# Altium schematic symbol library WE-MI.SchLib: 69 symbols (part 1 of 2)
Pins are listed as number, name and electrical type; pins without a type are passive.

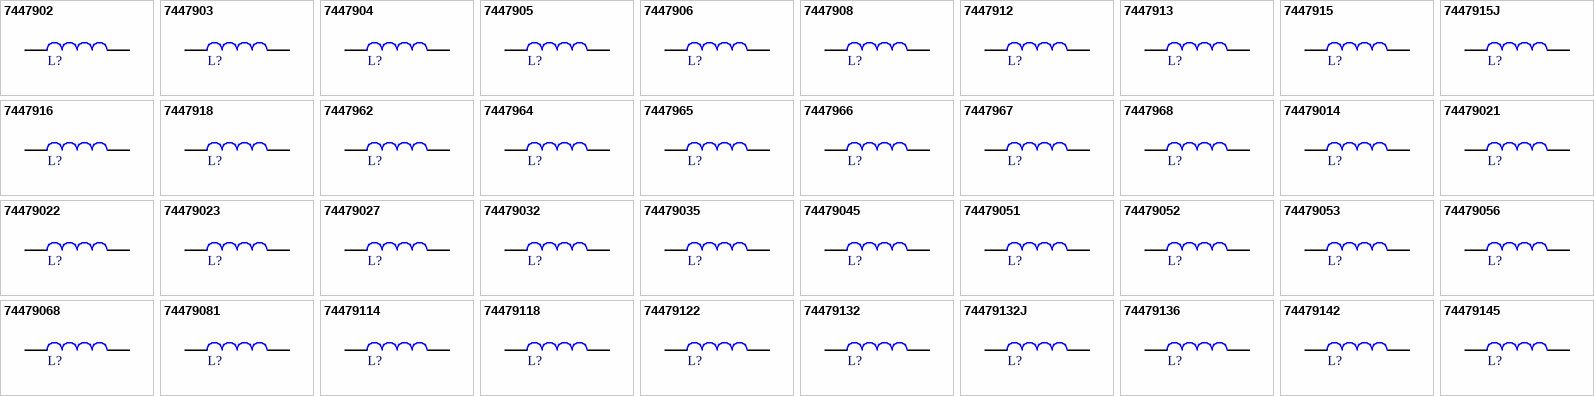
[diagram p0: symbols 7447902 to 74479145]

## 7447902
designator L?, comment 0.1µH  (value not drawn)
WE-MI SMT Multilayer Inductor, size 0805, 0.1µH, 250mA, 0.3Ω; Manufacturer Part Number: 7447902; Manufacturer: Wurth Elektronik; Case/Size Code: 0805; Q Factor: 20; ComponentLink1Description: Manufacturer Link; ComponentLink1URL: https://www.we-online.com/redexpert/article/7447902?ad; ComponentLink2Description: Datasheet; ComponentLink2URL: https://www.we-online.com/redexpert/spec/7447902?ad; Category: Filter Chokes; Match Code: WE-MI; Mount: Surface Mount; Operating Temperature Max: 125°C; Operating Temperature Min: -55°C; Packaging: Tape and Reel; Length: 2mm; Width: 1.2mm; Height: 0.9mm; DC Resistance Max: 0.3Ω; Inductance: 0.1µH; Rated Current: 250mA
footprint WE-MI_0805_L2W1.2H0.9
pins: 1, 2

## 7447903
designator L?, comment 0.33µH  (value not drawn)
WE-MI SMT Multilayer Inductor, size 0805, 0.33µH, 250mA, 0.5Ω; Manufacturer Part Number: 7447903; Manufacturer: Wurth Elektronik; Case/Size Code: 0805; Q Factor: 20; ComponentLink1Description: Manufacturer Link; ComponentLink1URL: https://www.we-online.com/redexpert/article/7447903?ad; ComponentLink2Description: Datasheet; ComponentLink2URL: https://www.we-online.com/redexpert/spec/7447903?ad; Category: Filter Chokes; Match Code: WE-MI; Mount: Surface Mount; Operating Temperature Max: 125°C; Operating Temperature Min: -55°C; Packaging: Tape and Reel; Length: 2mm; Width: 1.2mm; Height: 0.9mm; DC Resistance Max: 0.5Ω; Inductance: 0.33µH; Rated Current: 250mA
footprint WE-MI_0805_L2W1.2H0.9
pins: 1, 2

## 7447904
designator L?, comment 0.68µH  (value not drawn)
WE-MI SMT Multilayer Inductor, size 0805, 0.68µH, 150mA, 0.8Ω; Manufacturer Part Number: 7447904; Manufacturer: Wurth Elektronik; Case/Size Code: 0805; Q Factor: 25; ComponentLink1Description: Manufacturer Link; ComponentLink1URL: https://www.we-online.com/redexpert/article/7447904?ad; ComponentLink2Description: Datasheet; ComponentLink2URL: https://www.we-online.com/redexpert/spec/7447904?ad; Category: Filter Chokes; Match Code: WE-MI; Mount: Surface Mount; Operating Temperature Max: 125°C; Operating Temperature Min: -55°C; Packaging: Tape and Reel; Length: 2mm; Width: 1.2mm; Height: 1.25mm; DC Resistance Max: 0.8Ω; Inductance: 0.68µH; Rated Current: 150mA
footprint WE-MI_0805_L2W1.2H1.25
pins: 1, 2

## 7447905
designator L?, comment 1µH  (value not drawn)
WE-MI SMT Multilayer Inductor, size 0805, 1µH, 50mA, 0.4Ω; Manufacturer Part Number: 7447905; Manufacturer: Wurth Elektronik; Case/Size Code: 0805; Q Factor: 45; ComponentLink1Description: Manufacturer Link; ComponentLink1URL: https://www.we-online.com/redexpert/article/7447905?ad; ComponentLink2Description: Datasheet; ComponentLink2URL: https://www.we-online.com/redexpert/spec/7447905?ad; Category: Filter Chokes; Match Code: WE-MI; Mount: Surface Mount; Operating Temperature Max: 125°C; Operating Temperature Min: -55°C; Packaging: Tape and Reel; Length: 2mm; Width: 1.2mm; Height: 0.9mm; DC Resistance Max: 0.4Ω; Inductance: 1µH; Rated Current: 50mA
footprint WE-MI_0805_L2W1.2H0.9
pins: 1, 2

## 7447906
designator L?, comment 4.7µH  (value not drawn)
WE-MI SMT Multilayer Inductor, size 0805, 4.7µH, 30mA, 1Ω; Manufacturer Part Number: 7447906; Manufacturer: Wurth Elektronik; Case/Size Code: 0805; Q Factor: 45; ComponentLink1Description: Manufacturer Link; ComponentLink1URL: https://www.we-online.com/redexpert/article/7447906?ad; ComponentLink2Description: Datasheet; ComponentLink2URL: https://www.we-online.com/redexpert/spec/7447906?ad; Category: Filter Chokes; Match Code: WE-MI; Mount: Surface Mount; Operating Temperature Max: 125°C; Operating Temperature Min: -55°C; Packaging: Tape and Reel; Length: 2mm; Width: 1.2mm; Height: 1.25mm; DC Resistance Max: 1Ω; Inductance: 4.7µH; Rated Current: 30mA
footprint WE-MI_0805_L2W1.2H1.25
pins: 1, 2

## 7447908
designator L?, comment 10µH  (value not drawn)
WE-MI SMT Multilayer Inductor, size 0805, 10µH, 15mA, 1Ω; Manufacturer Part Number: 7447908; Manufacturer: Wurth Elektronik; Case/Size Code: 0805; Q Factor: 50; ComponentLink1Description: Manufacturer Link; ComponentLink1URL: https://www.we-online.com/redexpert/article/7447908?ad; ComponentLink2Description: Datasheet; ComponentLink2URL: https://www.we-online.com/redexpert/spec/7447908?ad; Category: Filter Chokes; Match Code: WE-MI; Mount: Surface Mount; Operating Temperature Max: 125°C; Operating Temperature Min: -55°C; Packaging: Tape and Reel; Length: 2mm; Width: 1.2mm; Height: 1.25mm; DC Resistance Max: 1Ω; Inductance: 10µH; Rated Current: 15mA
footprint WE-MI_0805_L2W1.2H1.25
pins: 1, 2

## 7447912
designator L?, comment 0.1µH  (value not drawn)
WE-MI SMT Multilayer Inductor, size 1206, 0.1µH, 250mA, 0.25Ω; Manufacturer Part Number: 7447912; Manufacturer: Wurth Elektronik; Case/Size Code: 1206; Q Factor: 20; ComponentLink1Description: Manufacturer Link; ComponentLink1URL: https://www.we-online.com/redexpert/article/7447912?ad; ComponentLink2Description: Datasheet; ComponentLink2URL: https://www.we-online.com/redexpert/spec/7447912?ad; Category: Filter Chokes; Match Code: WE-MI; Mount: Surface Mount; Operating Temperature Max: 125°C; Operating Temperature Min: -55°C; Packaging: Tape and Reel; Length: 3.2mm; Width: 1.6mm; Height: 1.1mm; DC Resistance Max: 0.25Ω; Inductance: 0.1µH; Rated Current: 250mA
footprint WE-MI_1206_L3.2W1.6H1.1
pins: 1, 2

## 7447913
designator L?, comment 0.33µH  (value not drawn)
WE-MI SMT Multilayer Inductor, size 1206, 0.33µH, 250mA, 0.5Ω; Manufacturer Part Number: 7447913; Manufacturer: Wurth Elektronik; Case/Size Code: 1206; Q Factor: 20; ComponentLink1Description: Manufacturer Link; ComponentLink1URL: https://www.we-online.com/redexpert/article/7447913?ad; ComponentLink2Description: Datasheet; ComponentLink2URL: https://www.we-online.com/redexpert/spec/7447913?ad; Category: Filter Chokes; Match Code: WE-MI; Mount: Surface Mount; Operating Temperature Max: 125°C; Operating Temperature Min: -55°C; Packaging: Tape and Reel; Length: 3.2mm; Width: 1.6mm; Height: 1.1mm; DC Resistance Max: 0.5Ω; Inductance: 0.33µH; Rated Current: 250mA
footprint WE-MI_1206_L3.2W1.6H1.1
pins: 1, 2

## 7447915
designator L?, comment 1µH  (value not drawn)
WE-MI SMT Multilayer Inductor, size 1206, 1µH, 100mA, 0.4Ω; Manufacturer Part Number: 7447915; Manufacturer: Wurth Elektronik; Case/Size Code: 1206; Q Factor: 45; ComponentLink1Description: Manufacturer Link; ComponentLink1URL: https://www.we-online.com/redexpert/article/7447915?ad; ComponentLink2Description: Datasheet; ComponentLink2URL: https://www.we-online.com/redexpert/spec/7447915?ad; Category: Filter Chokes; Match Code: WE-MI; Mount: Surface Mount; Operating Temperature Max: 125°C; Operating Temperature Min: -55°C; Packaging: Tape and Reel; Length: 3.2mm; Width: 1.6mm; Height: 1.1mm; DC Resistance Max: 0.4Ω; Inductance: 1µH; Rated Current: 100mA
footprint WE-MI_1206_L3.2W1.6H1.1
pins: 1, 2

## 7447915J
designator L?, comment 1µH  (value not drawn)
WE-MI SMT Multilayer Inductor, size 1206, 1µH, 100mA, 0.4Ω; Manufacturer Part Number: 7447915J; Manufacturer: Wurth Elektronik; Case/Size Code: 1206; Q Factor: 45; ComponentLink1Description: Manufacturer Link; ComponentLink1URL: https://www.we-online.com/redexpert/article/7447915J?ad; ComponentLink2Description: Datasheet; ComponentLink2URL: https://www.we-online.com/redexpert/spec/7447915J?ad; Category: Filter Chokes; Match Code: WE-MI; Mount: Surface Mount; Operating Temperature Max: 125°C; Operating Temperature Min: -55°C; Packaging: Tape and Reel; Length: 3.2mm; Width: 1.6mm; Height: 1.1mm; DC Resistance Max: 0.4Ω; Inductance: 1µH; Rated Current: 100mA
footprint WE-MI_1206_L3.2W1.6H1.1
pins: 1, 2

## 7447916
designator L?, comment 4.7µH  (value not drawn)
WE-MI SMT Multilayer Inductor, size 1206, 4.7µH, 50mA, 0.9Ω; Manufacturer Part Number: 7447916; Manufacturer: Wurth Elektronik; Case/Size Code: 1206; Q Factor: 45; ComponentLink1Description: Manufacturer Link; ComponentLink1URL: https://www.we-online.com/redexpert/article/7447916?ad; ComponentLink2Description: Datasheet; ComponentLink2URL: https://www.we-online.com/redexpert/spec/7447916?ad; Category: Filter Chokes; Match Code: WE-MI; Mount: Surface Mount; Operating Temperature Max: 125°C; Operating Temperature Min: -55°C; Packaging: Tape and Reel; Length: 3.2mm; Width: 1.6mm; Height: 1.1mm; DC Resistance Max: 0.9Ω; Inductance: 4.7µH; Rated Current: 50mA
footprint WE-MI_1206_L3.2W1.6H1.1
pins: 1, 2

## 7447918
designator L?, comment 10µH  (value not drawn)
WE-MI SMT Multilayer Inductor, size 1206, 10µH, 25mA, 0.6Ω; Manufacturer Part Number: 7447918; Manufacturer: Wurth Elektronik; Case/Size Code: 1206; Q Factor: 50; ComponentLink1Description: Manufacturer Link; ComponentLink1URL: https://www.we-online.com/redexpert/article/7447918?ad; ComponentLink2Description: Datasheet; ComponentLink2URL: https://www.we-online.com/redexpert/spec/7447918?ad; Category: Filter Chokes; Match Code: WE-MI; Mount: Surface Mount; Operating Temperature Max: 125°C; Operating Temperature Min: -55°C; Packaging: Tape and Reel; Length: 3.2mm; Width: 1.6mm; Height: 1.1mm; DC Resistance Max: 0.6Ω; Inductance: 10µH; Rated Current: 25mA
footprint WE-MI_1206_L3.2W1.6H1.1
pins: 1, 2

## 7447962
designator L?, comment 0.1µH  (value not drawn)
WE-MI SMT Multilayer Inductor, size 0603, 0.1µH, 50mA, 0.5Ω; Manufacturer Part Number: 7447962; Manufacturer: Wurth Elektronik; Case/Size Code: 0603; Q Factor: 15; ComponentLink1Description: Manufacturer Link; ComponentLink1URL: https://www.we-online.com/redexpert/article/7447962?ad; ComponentLink2Description: Datasheet; ComponentLink2URL: https://www.we-online.com/redexpert/spec/7447962?ad; Category: Filter Chokes; Match Code: WE-MI; Mount: Surface Mount; Operating Temperature Max: 125°C; Operating Temperature Min: -55°C; Packaging: Tape and Reel; Length: 1.6mm; Width: 0.8mm; Height: 0.8mm; DC Resistance Max: 0.5Ω; Inductance: 0.1µH; Rated Current: 50mA
footprint WE-MI_0603_L1.6W0.8H0.8
pins: 1, 2

## 7447964
designator L?, comment 0.68µH  (value not drawn)
WE-MI SMT Multilayer Inductor, size 0603, 0.68µH, 35mA, 1.7Ω; Manufacturer Part Number: 7447964; Manufacturer: Wurth Elektronik; Case/Size Code: 0603; Q Factor: 15; ComponentLink1Description: Manufacturer Link; ComponentLink1URL: https://www.we-online.com/redexpert/article/7447964?ad; ComponentLink2Description: Datasheet; ComponentLink2URL: https://www.we-online.com/redexpert/spec/7447964?ad; Category: Filter Chokes; Match Code: WE-MI; Mount: Surface Mount; Operating Temperature Max: 125°C; Operating Temperature Min: -55°C; Packaging: Tape and Reel; Length: 1.6mm; Width: 0.8mm; Height: 0.8mm; DC Resistance Max: 1.7Ω; Inductance: 0.68µH; Rated Current: 35mA
footprint WE-MI_0603_L1.6W0.8H0.8
pins: 1, 2

## 7447965
designator L?, comment 1µH  (value not drawn)
WE-MI SMT Multilayer Inductor, size 0603, 1µH, 25mA, 0.6Ω; Manufacturer Part Number: 7447965; Manufacturer: Wurth Elektronik; Case/Size Code: 0603; Q Factor: 35; ComponentLink1Description: Manufacturer Link; ComponentLink1URL: https://www.we-online.com/redexpert/article/7447965?ad; ComponentLink2Description: Datasheet; ComponentLink2URL: https://www.we-online.com/redexpert/spec/7447965?ad; Category: Filter Chokes; Match Code: WE-MI; Mount: Surface Mount; Operating Temperature Max: 125°C; Operating Temperature Min: -55°C; Packaging: Tape and Reel; Length: 1.6mm; Width: 0.8mm; Height: 0.8mm; DC Resistance Max: 0.6Ω; Inductance: 1µH; Rated Current: 25mA
footprint WE-MI_0603_L1.6W0.8H0.8
pins: 1, 2

## 7447966
designator L?, comment 4.7µH  (value not drawn)
WE-MI SMT Multilayer Inductor, size 0603, 4.7µH, 15mA, 1.8Ω; Manufacturer Part Number: 7447966; Manufacturer: Wurth Elektronik; Case/Size Code: 0603; Q Factor: 35; ComponentLink1Description: Manufacturer Link; ComponentLink1URL: https://www.we-online.com/redexpert/article/7447966?ad; ComponentLink2Description: Datasheet; ComponentLink2URL: https://www.we-online.com/redexpert/spec/7447966?ad; Category: Filter Chokes; Match Code: WE-MI; Mount: Surface Mount; Operating Temperature Max: 125°C; Operating Temperature Min: -55°C; Packaging: Tape and Reel; Length: 1.6mm; Width: 0.8mm; Height: 0.8mm; DC Resistance Max: 1.8Ω; Inductance: 4.7µH; Rated Current: 15mA
footprint WE-MI_0603_L1.6W0.8H0.8
pins: 1, 2

## 7447967
designator L?, comment 8.2µH  (value not drawn)
WE-MI SMT Multilayer Inductor, size 0603, 8.2µH, 5mA, 2.1Ω; Manufacturer Part Number: 7447967; Manufacturer: Wurth Elektronik; Case/Size Code: 0603; Q Factor: 35; ComponentLink1Description: Manufacturer Link; ComponentLink1URL: https://www.we-online.com/redexpert/article/7447967?ad; ComponentLink2Description: Datasheet; ComponentLink2URL: https://www.we-online.com/redexpert/spec/7447967?ad; Category: Filter Chokes; Match Code: WE-MI; Mount: Surface Mount; Operating Temperature Max: 125°C; Operating Temperature Min: -55°C; Packaging: Tape and Reel; Length: 1.6mm; Width: 0.8mm; Height: 0.8mm; DC Resistance Max: 2.1Ω; Inductance: 8.2µH; Rated Current: 5mA
footprint WE-MI_0603_L1.6W0.8H0.8
pins: 1, 2

## 7447968
designator L?, comment 10µH  (value not drawn)
WE-MI SMT Multilayer Inductor, size 0603, 10µH, 3mA, 1.85Ω; Manufacturer Part Number: 7447968; Manufacturer: Wurth Elektronik; Case/Size Code: 0603; Q Factor: 30; ComponentLink1Description: Manufacturer Link; ComponentLink1URL: https://www.we-online.com/redexpert/article/7447968?ad; ComponentLink2Description: Datasheet; ComponentLink2URL: https://www.we-online.com/redexpert/spec/7447968?ad; Category: Filter Chokes; Match Code: WE-MI; Mount: Surface Mount; Operating Temperature Max: 125°C; Operating Temperature Min: -55°C; Packaging: Tape and Reel; Length: 1.6mm; Width: 0.8mm; Height: 0.8mm; DC Resistance Max: 1.85Ω; Inductance: 10µH; Rated Current: 3mA
footprint WE-MI_0603_L1.6W0.8H0.8
pins: 1, 2

## 74479014
designator L?, comment 0.047µH  (value not drawn)
WE-MI SMT Multilayer Inductor, size 0805, 0.047µH, 300mA, 0.2Ω; Manufacturer Part Number: 74479014; Manufacturer: Wurth Elektronik; Case/Size Code: 0805; Q Factor: 20; ComponentLink1Description: Manufacturer Link; ComponentLink1URL: https://www.we-online.com/redexpert/article/74479014?ad; ComponentLink2Description: Datasheet; ComponentLink2URL: https://www.we-online.com/redexpert/spec/74479014?ad; Category: Filter Chokes; Match Code: WE-MI; Mount: Surface Mount; Operating Temperature Max: 125°C; Operating Temperature Min: -55°C; Packaging: Tape and Reel; Length: 2mm; Width: 1.2mm; Height: 0.9mm; DC Resistance Max: 0.2Ω; Inductance: 0.047µH; Rated Current: 300mA
footprint WE-MI_0805_L2W1.2H0.9
pins: 1, 2

## 74479021
designator L?, comment 0.1µH  (value not drawn)
WE-MI SMT Multilayer Inductor, size 0805, 0.1µH, 250mA, 0.2Ω; Manufacturer Part Number: 74479021; Manufacturer: Wurth Elektronik; Case/Size Code: 0805; Q Factor: 20; ComponentLink1Description: Manufacturer Link; ComponentLink1URL: https://www.we-online.com/redexpert/article/74479021?ad; ComponentLink2Description: Datasheet; ComponentLink2URL: https://www.we-online.com/redexpert/spec/74479021?ad; Category: Filter Chokes; Match Code: WE-MI; Mount: Surface Mount; Operating Temperature Max: 125°C; Operating Temperature Min: -55°C; Packaging: Tape and Reel; Length: 2mm; Width: 1.2mm; Height: 0.9mm; DC Resistance Max: 0.2Ω; Inductance: 0.1µH; Rated Current: 250mA
footprint WE-MI_0805_L2W1.2H0.9
pins: 1, 2

## 74479022
designator L?, comment 0.15µH  (value not drawn)
WE-MI SMT Multilayer Inductor, size 0805, 0.15µH, 250mA, 0.4Ω; Manufacturer Part Number: 74479022; Manufacturer: Wurth Elektronik; Case/Size Code: 0805; Q Factor: 20; ComponentLink1Description: Manufacturer Link; ComponentLink1URL: https://www.we-online.com/redexpert/article/74479022?ad; ComponentLink2Description: Datasheet; ComponentLink2URL: https://www.we-online.com/redexpert/spec/74479022?ad; Category: Filter Chokes; Match Code: WE-MI; Mount: Surface Mount; Operating Temperature Max: 125°C; Operating Temperature Min: -55°C; Packaging: Tape and Reel; Length: 2mm; Width: 1.2mm; Height: 0.9mm; DC Resistance Max: 0.4Ω; Inductance: 0.15µH; Rated Current: 250mA
footprint WE-MI_0805_L2W1.2H0.9
pins: 1, 2

## 74479023
designator L?, comment 0.22µH  (value not drawn)
WE-MI SMT Multilayer Inductor, size 0805, 0.22µH, 250mA, 0.5Ω; Manufacturer Part Number: 74479023; Manufacturer: Wurth Elektronik; Case/Size Code: 0805; Q Factor: 20; ComponentLink1Description: Manufacturer Link; ComponentLink1URL: https://www.we-online.com/redexpert/article/74479023?ad; ComponentLink2Description: Datasheet; ComponentLink2URL: https://www.we-online.com/redexpert/spec/74479023?ad; Category: Filter Chokes; Match Code: WE-MI; Mount: Surface Mount; Operating Temperature Max: 125°C; Operating Temperature Min: -55°C; Packaging: Tape and Reel; Length: 2mm; Width: 1.2mm; Height: 0.9mm; DC Resistance Max: 0.5Ω; Inductance: 0.22µH; Rated Current: 250mA
footprint WE-MI_0805_L2W1.2H0.9
pins: 1, 2

## 74479027
designator L?, comment 0.27µH  (value not drawn)
WE-MI SMT Multilayer Inductor, size 0805, 0.27µH, 250mA, 0.5Ω; Manufacturer Part Number: 74479027; Manufacturer: Wurth Elektronik; Case/Size Code: 0805; Q Factor: 20; ComponentLink1Description: Manufacturer Link; ComponentLink1URL: https://www.we-online.com/redexpert/article/74479027?ad; ComponentLink2Description: Datasheet; ComponentLink2URL: https://www.we-online.com/redexpert/spec/74479027?ad; Category: Filter Chokes; Match Code: WE-MI; Mount: Surface Mount; Operating Temperature Max: 125°C; Operating Temperature Min: -55°C; Packaging: Tape and Reel; Length: 2mm; Width: 1.2mm; Height: 0.9mm; DC Resistance Max: 0.5Ω; Inductance: 0.27µH; Rated Current: 250mA
footprint WE-MI_0805_L2W1.2H0.9
pins: 1, 2

## 74479032
designator L?, comment 0.47µH  (value not drawn)
WE-MI SMT Multilayer Inductor, size 0805, 0.47µH, 200mA, 0.6Ω; Manufacturer Part Number: 74479032; Manufacturer: Wurth Elektronik; Case/Size Code: 0805; Q Factor: 25; ComponentLink1Description: Manufacturer Link; ComponentLink1URL: https://www.we-online.com/redexpert/article/74479032?ad; ComponentLink2Description: Datasheet; ComponentLink2URL: https://www.we-online.com/redexpert/spec/74479032?ad; Category: Filter Chokes; Match Code: WE-MI; Mount: Surface Mount; Operating Temperature Max: 125°C; Operating Temperature Min: -55°C; Packaging: Tape and Reel; Length: 2mm; Width: 1.2mm; Height: 1.25mm; DC Resistance Max: 0.6Ω; Inductance: 0.47µH; Rated Current: 200mA
footprint WE-MI_0805_L2W1.2H1.25
pins: 1, 2

## 74479035
designator L?, comment 0.56µH  (value not drawn)
WE-MI SMT Multilayer Inductor, size 0805, 0.56µH, 150mA, 0.7Ω; Manufacturer Part Number: 74479035; Manufacturer: Wurth Elektronik; Case/Size Code: 0805; Q Factor: 25; ComponentLink1Description: Manufacturer Link; ComponentLink1URL: https://www.we-online.com/redexpert/article/74479035?ad; ComponentLink2Description: Datasheet; ComponentLink2URL: https://www.we-online.com/redexpert/spec/74479035?ad; Category: Filter Chokes; Match Code: WE-MI; Mount: Surface Mount; Operating Temperature Max: 125°C; Operating Temperature Min: -55°C; Packaging: Tape and Reel; Length: 2mm; Width: 1.2mm; Height: 1.25mm; DC Resistance Max: 0.7Ω; Inductance: 0.56µH; Rated Current: 150mA
footprint WE-MI_0805_L2W1.2H1.25
pins: 1, 2

## 74479045
designator L?, comment 0.82µH  (value not drawn)
WE-MI SMT Multilayer Inductor, size 0805, 0.82µH, 150mA, 1Ω; Manufacturer Part Number: 74479045; Manufacturer: Wurth Elektronik; Case/Size Code: 0805; Q Factor: 25; ComponentLink1Description: Manufacturer Link; ComponentLink1URL: https://www.we-online.com/redexpert/article/74479045?ad; ComponentLink2Description: Datasheet; ComponentLink2URL: https://www.we-online.com/redexpert/spec/74479045?ad; Category: Filter Chokes; Match Code: WE-MI; Mount: Surface Mount; Operating Temperature Max: 125°C; Operating Temperature Min: -55°C; Packaging: Tape and Reel; Length: 2mm; Width: 1.2mm; Height: 1.25mm; DC Resistance Max: 1Ω; Inductance: 0.82µH; Rated Current: 150mA
footprint WE-MI_0805_L2W1.2H1.25
pins: 1, 2

## 74479051
designator L?, comment 1.8µH  (value not drawn)
WE-MI SMT Multilayer Inductor, size 0805, 1.8µH, 50mA, 0.6Ω; Manufacturer Part Number: 74479051; Manufacturer: Wurth Elektronik; Case/Size Code: 0805; Q Factor: 45; ComponentLink1Description: Manufacturer Link; ComponentLink1URL: https://www.we-online.com/redexpert/article/74479051?ad; ComponentLink2Description: Datasheet; ComponentLink2URL: https://www.we-online.com/redexpert/spec/74479051?ad; Category: Filter Chokes; Match Code: WE-MI; Mount: Surface Mount; Operating Temperature Max: 125°C; Operating Temperature Min: -55°C; Packaging: Tape and Reel; Length: 2mm; Width: 1.2mm; Height: 0.9mm; DC Resistance Max: 0.6Ω; Inductance: 1.8µH; Rated Current: 50mA
footprint WE-MI_0805_L2W1.2H0.9
pins: 1, 2

## 74479052
designator L?, comment 2.2µH  (value not drawn)
WE-MI SMT Multilayer Inductor, size 0805, 2.2µH, 30mA, 0.6Ω; Manufacturer Part Number: 74479052; Manufacturer: Wurth Elektronik; Case/Size Code: 0805; Q Factor: 45; ComponentLink1Description: Manufacturer Link; ComponentLink1URL: https://www.we-online.com/redexpert/article/74479052?ad; ComponentLink2Description: Datasheet; ComponentLink2URL: https://www.we-online.com/redexpert/spec/74479052?ad; Category: Filter Chokes; Match Code: WE-MI; Mount: Surface Mount; Operating Temperature Max: 125°C; Operating Temperature Min: -55°C; Packaging: Tape and Reel; Length: 2mm; Width: 1.2mm; Height: 0.9mm; DC Resistance Max: 0.6Ω; Inductance: 2.2µH; Rated Current: 30mA
footprint WE-MI_0805_L2W1.2H0.9
pins: 1, 2

## 74479053
designator L?, comment 3.3µH  (value not drawn)
WE-MI SMT Multilayer Inductor, size 0805, 3.3µH, 30mA, 0.8Ω; Manufacturer Part Number: 74479053; Manufacturer: Wurth Elektronik; Case/Size Code: 0805; Q Factor: 45; ComponentLink1Description: Manufacturer Link; ComponentLink1URL: https://www.we-online.com/redexpert/article/74479053?ad; ComponentLink2Description: Datasheet; ComponentLink2URL: https://www.we-online.com/redexpert/spec/74479053?ad; Category: Filter Chokes; Match Code: WE-MI; Mount: Surface Mount; Operating Temperature Max: 125°C; Operating Temperature Min: -55°C; Packaging: Tape and Reel; Length: 2mm; Width: 1.2mm; Height: 1.25mm; DC Resistance Max: 0.8Ω; Inductance: 3.3µH; Rated Current: 30mA
footprint WE-MI_0805_L2W1.2H1.25
pins: 1, 2

## 74479056
designator L?, comment 5.6µH  (value not drawn)
WE-MI SMT Multilayer Inductor, size 0805, 5.6µH, 15mA, 0.9Ω; Manufacturer Part Number: 74479056; Manufacturer: Wurth Elektronik; Case/Size Code: 0805; Q Factor: 50; ComponentLink1Description: Manufacturer Link; ComponentLink1URL: https://www.we-online.com/redexpert/article/74479056?ad; ComponentLink2Description: Datasheet; ComponentLink2URL: https://www.we-online.com/redexpert/spec/74479056?ad; Category: Filter Chokes; Match Code: WE-MI; Mount: Surface Mount; Operating Temperature Max: 125°C; Operating Temperature Min: -55°C; Packaging: Tape and Reel; Length: 2mm; Width: 1.2mm; Height: 1.25mm; DC Resistance Max: 0.9Ω; Inductance: 5.6µH; Rated Current: 15mA
footprint WE-MI_0805_L2W1.2H1.25
pins: 1, 2

## 74479068
designator L?, comment 6.8µH  (value not drawn)
WE-MI SMT Multilayer Inductor, size 0805, 6.8µH, 15mA, 1Ω; Manufacturer Part Number: 74479068; Manufacturer: Wurth Elektronik; Case/Size Code: 0805; Q Factor: 50; ComponentLink1Description: Manufacturer Link; ComponentLink1URL: https://www.we-online.com/redexpert/article/74479068?ad; ComponentLink2Description: Datasheet; ComponentLink2URL: https://www.we-online.com/redexpert/spec/74479068?ad; Category: Filter Chokes; Match Code: WE-MI; Mount: Surface Mount; Operating Temperature Max: 125°C; Operating Temperature Min: -55°C; Packaging: Tape and Reel; Length: 2mm; Width: 1.2mm; Height: 1.25mm; DC Resistance Max: 1Ω; Inductance: 6.8µH; Rated Current: 15mA
footprint WE-MI_0805_L2W1.2H1.25
pins: 1, 2

## 74479081
designator L?, comment 12µH  (value not drawn)
WE-MI SMT Multilayer Inductor, size 0805, 12µH, 15mA, 1.1Ω; Manufacturer Part Number: 74479081; Manufacturer: Wurth Elektronik; Case/Size Code: 0805; Q Factor: 50; ComponentLink1Description: Manufacturer Link; ComponentLink1URL: https://www.we-online.com/redexpert/article/74479081?ad; ComponentLink2Description: Datasheet; ComponentLink2URL: https://www.we-online.com/redexpert/spec/74479081?ad; Category: Filter Chokes; Match Code: WE-MI; Mount: Surface Mount; Operating Temperature Max: 125°C; Operating Temperature Min: -55°C; Packaging: Tape and Reel; Length: 2mm; Width: 1.2mm; Height: 1.25mm; DC Resistance Max: 1.1Ω; Inductance: 12µH; Rated Current: 15mA
footprint WE-MI_0805_L2W1.2H1.25
pins: 1, 2

## 74479114
designator L?, comment 0.047µH  (value not drawn)
WE-MI SMT Multilayer Inductor, size 1206, 0.047µH, 300mA, 0.15Ω; Manufacturer Part Number: 74479114; Manufacturer: Wurth Elektronik; Case/Size Code: 1206; Q Factor: 20; ComponentLink1Description: Manufacturer Link; ComponentLink1URL: https://www.we-online.com/redexpert/article/74479114?ad; ComponentLink2Description: Datasheet; ComponentLink2URL: https://www.we-online.com/redexpert/spec/74479114?ad; Category: Filter Chokes; Match Code: WE-MI; Mount: Surface Mount; Operating Temperature Max: 125°C; Operating Temperature Min: -55°C; Packaging: Tape and Reel; Length: 3.2mm; Width: 1.6mm; Height: 1.1mm; DC Resistance Max: 0.15Ω; Inductance: 0.047µH; Rated Current: 300mA
footprint WE-MI_1206_L3.2W1.6H1.1
pins: 1, 2

## 74479118
designator L?, comment 18µH  (value not drawn)
WE-MI SMT Multilayer Inductor, size 1206, 18µH, 5mA, 0.7Ω; Manufacturer Part Number: 74479118; Manufacturer: Wurth Elektronik; Case/Size Code: 1206; Q Factor: 50; ComponentLink1Description: Manufacturer Link; ComponentLink1URL: https://www.we-online.com/redexpert/article/74479118?ad; ComponentLink2Description: Datasheet; ComponentLink2URL: https://www.we-online.com/redexpert/spec/74479118?ad; Category: Filter Chokes; Match Code: WE-MI; Mount: Surface Mount; Operating Temperature Max: 125°C; Operating Temperature Min: -55°C; Packaging: Tape and Reel; Length: 3.2mm; Width: 1.6mm; Height: 1.1mm; DC Resistance Max: 0.7Ω; Inductance: 18µH; Rated Current: 5mA
footprint WE-MI_1206_L3.2W1.6H1.1
pins: 1, 2

## 74479122
designator L?, comment 0.15µH  (value not drawn)
WE-MI SMT Multilayer Inductor, size 1206, 0.15µH, 250mA, 0.3Ω; Manufacturer Part Number: 74479122; Manufacturer: Wurth Elektronik; Case/Size Code: 1206; Q Factor: 20; ComponentLink1Description: Manufacturer Link; ComponentLink1URL: https://www.we-online.com/redexpert/article/74479122?ad; ComponentLink2Description: Datasheet; ComponentLink2URL: https://www.we-online.com/redexpert/spec/74479122?ad; Category: Filter Chokes; Match Code: WE-MI; Mount: Surface Mount; Operating Temperature Max: 125°C; Operating Temperature Min: -55°C; Packaging: Tape and Reel; Length: 3.2mm; Width: 1.6mm; Height: 1.1mm; DC Resistance Max: 0.3Ω; Inductance: 0.15µH; Rated Current: 250mA
footprint WE-MI_1206_L3.2W1.6H1.1
pins: 1, 2

## 74479132
designator L?, comment 0.47µH  (value not drawn)
WE-MI SMT Multilayer Inductor, size 1206, 0.47µH, 200mA, 0.6Ω; Manufacturer Part Number: 74479132; Manufacturer: Wurth Elektronik; Case/Size Code: 1206; Q Factor: 25; ComponentLink1Description: Manufacturer Link; ComponentLink1URL: https://www.we-online.com/redexpert/article/74479132?ad; ComponentLink2Description: Datasheet; ComponentLink2URL: https://www.we-online.com/redexpert/spec/74479132?ad; Category: Filter Chokes; Match Code: WE-MI; Mount: Surface Mount; Operating Temperature Max: 125°C; Operating Temperature Min: -55°C; Packaging: Tape and Reel; Length: 3.2mm; Width: 1.6mm; Height: 1.1mm; DC Resistance Max: 0.6Ω; Inductance: 0.47µH; Rated Current: 200mA
footprint WE-MI_1206_L3.2W1.6H1.1
pins: 1, 2

## 74479132J
designator L?, comment 0.47µH  (value not drawn)
WE-MI SMT Multilayer Inductor, size 1206, 0.47µH, 200mA, 0.6Ω; Manufacturer Part Number: 74479132J; Manufacturer: Wurth Elektronik; Case/Size Code: 1206; Q Factor: 25; ComponentLink1Description: Manufacturer Link; ComponentLink1URL: https://www.we-online.com/redexpert/article/74479132J?ad; ComponentLink2Description: Datasheet; ComponentLink2URL: https://www.we-online.com/redexpert/spec/74479132J?ad; Category: Filter Chokes; Match Code: WE-MI; Mount: Surface Mount; Operating Temperature Max: 125°C; Operating Temperature Min: -55°C; Packaging: Tape and Reel; Length: 3.2mm; Width: 1.6mm; Height: 1.1mm; DC Resistance Max: 0.6Ω; Inductance: 0.47µH; Rated Current: 200mA
footprint WE-MI_1206_L3.2W1.6H1.1
pins: 1, 2

## 74479136
designator L?, comment 0.68µH  (value not drawn)
WE-MI SMT Multilayer Inductor, size 1206, 0.68µH, 150mA, 0.8Ω; Manufacturer Part Number: 74479136; Manufacturer: Wurth Elektronik; Case/Size Code: 1206; Q Factor: 25; ComponentLink1Description: Manufacturer Link; ComponentLink1URL: https://www.we-online.com/redexpert/article/74479136?ad; ComponentLink2Description: Datasheet; ComponentLink2URL: https://www.we-online.com/redexpert/spec/74479136?ad; Category: Filter Chokes; Match Code: WE-MI; Mount: Surface Mount; Operating Temperature Max: 125°C; Operating Temperature Min: -55°C; Packaging: Tape and Reel; Length: 3.2mm; Width: 1.6mm; Height: 1.1mm; DC Resistance Max: 0.8Ω; Inductance: 0.68µH; Rated Current: 150mA
footprint WE-MI_1206_L3.2W1.6H1.1
pins: 1, 2

## 74479142
designator L?, comment 1.2µH  (value not drawn)
WE-MI SMT Multilayer Inductor, size 1206, 1.2µH, 100mA, 0.5Ω; Manufacturer Part Number: 74479142; Manufacturer: Wurth Elektronik; Case/Size Code: 1206; Q Factor: 45; ComponentLink1Description: Manufacturer Link; ComponentLink1URL: https://www.we-online.com/redexpert/article/74479142?ad; ComponentLink2Description: Datasheet; ComponentLink2URL: https://www.we-online.com/redexpert/spec/74479142?ad; Category: Filter Chokes; Match Code: WE-MI; Mount: Surface Mount; Operating Temperature Max: 125°C; Operating Temperature Min: -55°C; Packaging: Tape and Reel; Length: 3.2mm; Width: 1.6mm; Height: 1.1mm; DC Resistance Max: 0.5Ω; Inductance: 1.2µH; Rated Current: 100mA
footprint WE-MI_1206_L3.2W1.6H1.1
pins: 1, 2

## 74479145
designator L?, comment 1.5µH  (value not drawn)
WE-MI SMT Multilayer Inductor, size 1206, 1.5µH, 50mA, 0.5Ω; Manufacturer Part Number: 74479145; Manufacturer: Wurth Elektronik; Case/Size Code: 1206; Q Factor: 45; ComponentLink1Description: Manufacturer Link; ComponentLink1URL: https://www.we-online.com/redexpert/article/74479145?ad; ComponentLink2Description: Datasheet; ComponentLink2URL: https://www.we-online.com/redexpert/spec/74479145?ad; Category: Filter Chokes; Match Code: WE-MI; Mount: Surface Mount; Operating Temperature Max: 125°C; Operating Temperature Min: -55°C; Packaging: Tape and Reel; Length: 3.2mm; Width: 1.6mm; Height: 1.1mm; DC Resistance Max: 0.5Ω; Inductance: 1.5µH; Rated Current: 50mA
footprint WE-MI_1206_L3.2W1.6H1.1
pins: 1, 2

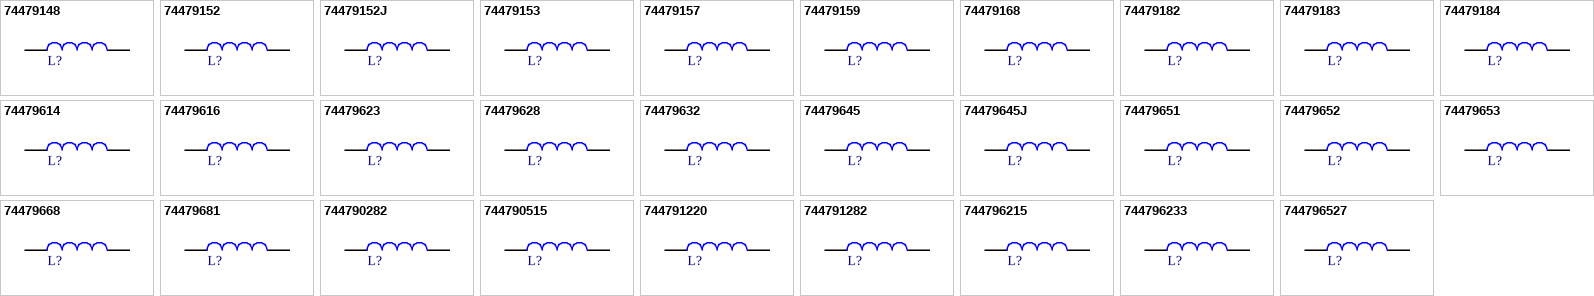
[diagram p1: symbols 74479148 to 744796527]

## 74479148
designator L?, comment 1.8µH  (value not drawn)
WE-MI SMT Multilayer Inductor, size 1206, 1.8µH, 50mA, 0.5Ω; Manufacturer Part Number: 74479148; Manufacturer: Wurth Elektronik; Case/Size Code: 1206; Q Factor: 45; ComponentLink1Description: Manufacturer Link; ComponentLink1URL: https://www.we-online.com/redexpert/article/74479148?ad; ComponentLink2Description: Datasheet; ComponentLink2URL: https://www.we-online.com/redexpert/spec/74479148?ad; Category: Filter Chokes; Match Code: WE-MI; Mount: Surface Mount; Operating Temperature Max: 125°C; Operating Temperature Min: -55°C; Packaging: Tape and Reel; Length: 3.2mm; Width: 1.6mm; Height: 1.1mm; DC Resistance Max: 0.5Ω; Inductance: 1.8µH; Rated Current: 50mA
footprint WE-MI_1206_L3.2W1.6H1.1
pins: 1, 2

## 74479152
designator L?, comment 2.2µH  (value not drawn)
WE-MI SMT Multilayer Inductor, size 1206, 2.2µH, 50mA, 0.6Ω; Manufacturer Part Number: 74479152; Manufacturer: Wurth Elektronik; Case/Size Code: 1206; Q Factor: 45; ComponentLink1Description: Manufacturer Link; ComponentLink1URL: https://www.we-online.com/redexpert/article/74479152?ad; ComponentLink2Description: Datasheet; ComponentLink2URL: https://www.we-online.com/redexpert/spec/74479152?ad; Category: Filter Chokes; Match Code: WE-MI; Mount: Surface Mount; Operating Temperature Max: 125°C; Operating Temperature Min: -55°C; Packaging: Tape and Reel; Length: 3.2mm; Width: 1.6mm; Height: 1.1mm; DC Resistance Max: 0.6Ω; Inductance: 2.2µH; Rated Current: 50mA
footprint WE-MI_1206_L3.2W1.6H1.1
pins: 1, 2

## 74479152J
designator L?, comment 2.2µH  (value not drawn)
WE-MI SMT Multilayer Inductor, size 1206, 2.2µH, 50mA, 0.6Ω; Manufacturer Part Number: 74479152J; Manufacturer: Wurth Elektronik; Case/Size Code: 1206; Q Factor: 45; ComponentLink1Description: Manufacturer Link; ComponentLink1URL: https://www.we-online.com/redexpert/article/74479152J?ad; ComponentLink2Description: Datasheet; ComponentLink2URL: https://www.we-online.com/redexpert/spec/74479152J?ad; Category: Filter Chokes; Match Code: WE-MI; Mount: Surface Mount; Operating Temperature Max: 125°C; Operating Temperature Min: -55°C; Packaging: Tape and Reel; Length: 3.2mm; Width: 1.6mm; Height: 1.1mm; DC Resistance Max: 0.6Ω; Inductance: 2.2µH; Rated Current: 50mA
footprint WE-MI_1206_L3.2W1.6H1.1
pins: 1, 2

## 74479153
designator L?, comment 3.3µH  (value not drawn)
WE-MI SMT Multilayer Inductor, size 1206, 3.3µH, 50mA, 0.7Ω; Manufacturer Part Number: 74479153; Manufacturer: Wurth Elektronik; Case/Size Code: 1206; Q Factor: 45; ComponentLink1Description: Manufacturer Link; ComponentLink1URL: https://www.we-online.com/redexpert/article/74479153?ad; ComponentLink2Description: Datasheet; ComponentLink2URL: https://www.we-online.com/redexpert/spec/74479153?ad; Category: Filter Chokes; Match Code: WE-MI; Mount: Surface Mount; Operating Temperature Max: 125°C; Operating Temperature Min: -55°C; Packaging: Tape and Reel; Length: 3.2mm; Width: 1.6mm; Height: 1.1mm; DC Resistance Max: 0.7Ω; Inductance: 3.3µH; Rated Current: 50mA
footprint WE-MI_1206_L3.2W1.6H1.1
pins: 1, 2

## 74479157
designator L?, comment 2.7µH  (value not drawn)
WE-MI SMT Multilayer Inductor, size 1206, 2.7µH, 50mA, 0.6Ω; Manufacturer Part Number: 74479157; Manufacturer: Wurth Elektronik; Case/Size Code: 1206; Q Factor: 45; ComponentLink1Description: Manufacturer Link; ComponentLink1URL: https://www.we-online.com/redexpert/article/74479157?ad; ComponentLink2Description: Datasheet; ComponentLink2URL: https://www.we-online.com/redexpert/spec/74479157?ad; Category: Filter Chokes; Match Code: WE-MI; Mount: Surface Mount; Operating Temperature Max: 125°C; Operating Temperature Min: -55°C; Packaging: Tape and Reel; Length: 3.2mm; Width: 1.6mm; Height: 1.1mm; DC Resistance Max: 0.6Ω; Inductance: 2.7µH; Rated Current: 50mA
footprint WE-MI_1206_L3.2W1.6H1.1
pins: 1, 2

## 74479159
designator L?, comment 3.9µH  (value not drawn)
WE-MI SMT Multilayer Inductor, size 1206, 3.9µH, 50mA, 0.8Ω; Manufacturer Part Number: 74479159; Manufacturer: Wurth Elektronik; Case/Size Code: 1206; Q Factor: 45; ComponentLink1Description: Manufacturer Link; ComponentLink1URL: https://www.we-online.com/redexpert/article/74479159?ad; ComponentLink2Description: Datasheet; ComponentLink2URL: https://www.we-online.com/redexpert/spec/74479159?ad; Category: Filter Chokes; Match Code: WE-MI; Mount: Surface Mount; Operating Temperature Max: 125°C; Operating Temperature Min: -55°C; Packaging: Tape and Reel; Length: 3.2mm; Width: 1.6mm; Height: 1.1mm; DC Resistance Max: 0.8Ω; Inductance: 3.9µH; Rated Current: 50mA
footprint WE-MI_1206_L3.2W1.6H1.1
pins: 1, 2

## 74479168
designator L?, comment 6.8µH  (value not drawn)
WE-MI SMT Multilayer Inductor, size 1206, 6.8µH, 25mA, 0.9Ω; Manufacturer Part Number: 74479168; Manufacturer: Wurth Elektronik; Case/Size Code: 1206; Q Factor: 50; ComponentLink1Description: Manufacturer Link; ComponentLink1URL: https://www.we-online.com/redexpert/article/74479168?ad; ComponentLink2Description: Datasheet; ComponentLink2URL: https://www.we-online.com/redexpert/spec/74479168?ad; Category: Filter Chokes; Match Code: WE-MI; Mount: Surface Mount; Operating Temperature Max: 125°C; Operating Temperature Min: -55°C; Packaging: Tape and Reel; Length: 3.2mm; Width: 1.6mm; Height: 1.1mm; DC Resistance Max: 0.9Ω; Inductance: 6.8µH; Rated Current: 25mA
footprint WE-MI_1206_L3.2W1.6H1.1
pins: 1, 2

## 74479182
designator L?, comment 15µH  (value not drawn)
WE-MI SMT Multilayer Inductor, size 1206, 15µH, 5mA, 0.7Ω; Manufacturer Part Number: 74479182; Manufacturer: Wurth Elektronik; Case/Size Code: 1206; Q Factor: 50; ComponentLink1Description: Manufacturer Link; ComponentLink1URL: https://www.we-online.com/redexpert/article/74479182?ad; ComponentLink2Description: Datasheet; ComponentLink2URL: https://www.we-online.com/redexpert/spec/74479182?ad; Category: Filter Chokes; Match Code: WE-MI; Mount: Surface Mount; Operating Temperature Max: 125°C; Operating Temperature Min: -55°C; Packaging: Tape and Reel; Length: 3.2mm; Width: 1.6mm; Height: 1.1mm; DC Resistance Max: 0.7Ω; Inductance: 15µH; Rated Current: 5mA
footprint WE-MI_1206_L3.2W1.6H1.1
pins: 1, 2

## 74479183
designator L?, comment 22µH  (value not drawn)
WE-MI SMT Multilayer Inductor, size 1206, 22µH, 5mA, 0.9Ω; Manufacturer Part Number: 74479183; Manufacturer: Wurth Elektronik; Case/Size Code: 1206; Q Factor: 50; ComponentLink1Description: Manufacturer Link; ComponentLink1URL: https://www.we-online.com/redexpert/article/74479183?ad; ComponentLink2Description: Datasheet; ComponentLink2URL: https://www.we-online.com/redexpert/spec/74479183?ad; Category: Filter Chokes; Match Code: WE-MI; Mount: Surface Mount; Operating Temperature Max: 125°C; Operating Temperature Min: -55°C; Packaging: Tape and Reel; Length: 3.2mm; Width: 1.6mm; Height: 1.1mm; DC Resistance Max: 0.9Ω; Inductance: 22µH; Rated Current: 5mA
footprint WE-MI_1206_L3.2W1.6H1.1
pins: 1, 2

## 74479184
designator L?, comment 33µH  (value not drawn)
WE-MI SMT Multilayer Inductor, size 1206, 33µH, 25mA, 0.9Ω; Manufacturer Part Number: 74479184; Manufacturer: Wurth Elektronik; Case/Size Code: 1206; Q Factor: 35; ComponentLink1Description: Manufacturer Link; ComponentLink1URL: https://www.we-online.com/redexpert/article/74479184?ad; ComponentLink2Description: Datasheet; ComponentLink2URL: https://www.we-online.com/redexpert/spec/74479184?ad; Category: Filter Chokes; Match Code: WE-MI; Mount: Surface Mount; Operating Temperature Max: 125°C; Operating Temperature Min: -55°C; Packaging: Tape and Reel; Length: 3.2mm; Width: 1.6mm; Height: 1.1mm; DC Resistance Max: 0.9Ω; Inductance: 33µH; Rated Current: 25mA
footprint WE-MI_1206_L3.2W1.6H1.1
pins: 1, 2

## 74479614
designator L?, comment 0.047µH  (value not drawn)
WE-MI SMT Multilayer Inductor, size 0603, 0.047µH, 50mA, 0.25Ω; Manufacturer Part Number: 74479614; Manufacturer: Wurth Elektronik; Case/Size Code: 0603; Q Factor: 10; ComponentLink1Description: Manufacturer Link; ComponentLink1URL: https://www.we-online.com/redexpert/article/74479614?ad; ComponentLink2Description: Datasheet; ComponentLink2URL: https://www.we-online.com/redexpert/spec/74479614?ad; Category: Filter Chokes; Match Code: WE-MI; Mount: Surface Mount; Operating Temperature Max: 125°C; Operating Temperature Min: -55°C; Packaging: Tape and Reel; Length: 1.6mm; Width: 0.8mm; Height: 0.8mm; DC Resistance Max: 0.25Ω; Inductance: 0.047µH; Rated Current: 50mA
footprint WE-MI_0603_L1.6W0.8H0.8
pins: 1, 2

## 74479616
designator L?, comment 0.068µH  (value not drawn)
WE-MI SMT Multilayer Inductor, size 0603, 0.068µH, 50mA, 0.25Ω; Manufacturer Part Number: 74479616; Manufacturer: Wurth Elektronik; Case/Size Code: 0603; Q Factor: 10; ComponentLink1Description: Manufacturer Link; ComponentLink1URL: https://www.we-online.com/redexpert/article/74479616?ad; ComponentLink2Description: Datasheet; ComponentLink2URL: https://www.we-online.com/redexpert/spec/74479616?ad; Category: Filter Chokes; Match Code: WE-MI; Mount: Surface Mount; Operating Temperature Max: 125°C; Operating Temperature Min: -55°C; Packaging: Tape and Reel; Length: 1.6mm; Width: 0.8mm; Height: 0.8mm; DC Resistance Max: 0.25Ω; Inductance: 0.068µH; Rated Current: 50mA
footprint WE-MI_0603_L1.6W0.8H0.8
pins: 1, 2

## 74479623
designator L?, comment 0.22µH  (value not drawn)
WE-MI SMT Multilayer Inductor, size 0603, 0.22µH, 50mA, 0.8Ω; Manufacturer Part Number: 74479623; Manufacturer: Wurth Elektronik; Case/Size Code: 0603; Q Factor: 15; ComponentLink1Description: Manufacturer Link; ComponentLink1URL: https://www.we-online.com/redexpert/article/74479623?ad; ComponentLink2Description: Datasheet; ComponentLink2URL: https://www.we-online.com/redexpert/spec/74479623?ad; Category: Filter Chokes; Match Code: WE-MI; Mount: Surface Mount; Operating Temperature Max: 125°C; Operating Temperature Min: -55°C; Packaging: Tape and Reel; Length: 1.6mm; Width: 0.8mm; Height: 0.8mm; DC Resistance Max: 0.8Ω; Inductance: 0.22µH; Rated Current: 50mA
footprint WE-MI_0603_L1.6W0.8H0.8
pins: 1, 2

## 74479628
designator L?, comment 0.82µH  (value not drawn)
WE-MI SMT Multilayer Inductor, size 0603, 0.82µH, 35mA, 2.1Ω; Manufacturer Part Number: 74479628; Manufacturer: Wurth Elektronik; Case/Size Code: 0603; Q Factor: 15; ComponentLink1Description: Manufacturer Link; ComponentLink1URL: https://www.we-online.com/redexpert/article/74479628?ad; ComponentLink2Description: Datasheet; ComponentLink2URL: https://www.we-online.com/redexpert/spec/74479628?ad; Category: Filter Chokes; Match Code: WE-MI; Mount: Surface Mount; Operating Temperature Max: 125°C; Operating Temperature Min: -55°C; Packaging: Tape and Reel; Length: 1.6mm; Width: 0.8mm; Height: 0.8mm; DC Resistance Max: 2.1Ω; Inductance: 0.82µH; Rated Current: 35mA
footprint WE-MI_0603_L1.6W0.8H0.8
pins: 1, 2

## 74479632
designator L?, comment 0.47µH  (value not drawn)
WE-MI SMT Multilayer Inductor, size 0603, 0.47µH, 35mA, 1Ω; Manufacturer Part Number: 74479632; Manufacturer: Wurth Elektronik; Case/Size Code: 0603; Q Factor: 15; ComponentLink1Description: Manufacturer Link; ComponentLink1URL: https://www.we-online.com/redexpert/article/74479632?ad; ComponentLink2Description: Datasheet; ComponentLink2URL: https://www.we-online.com/redexpert/spec/74479632?ad; Category: Filter Chokes; Match Code: WE-MI; Mount: Surface Mount; Operating Temperature Max: 125°C; Operating Temperature Min: -55°C; Packaging: Tape and Reel; Length: 1.6mm; Width: 0.8mm; Height: 0.8mm; DC Resistance Max: 1Ω; Inductance: 0.47µH; Rated Current: 35mA
footprint WE-MI_0603_L1.6W0.8H0.8
pins: 1, 2

## 74479645
designator L?, comment 0.56µH  (value not drawn)
WE-MI SMT Multilayer Inductor, size 0603, 0.56µH, 35mA, 1.55Ω; Manufacturer Part Number: 74479645; Manufacturer: Wurth Elektronik; Case/Size Code: 0603; Q Factor: 15; ComponentLink1Description: Manufacturer Link; ComponentLink1URL: https://www.we-online.com/redexpert/article/74479645?ad; ComponentLink2Description: Datasheet; ComponentLink2URL: https://www.we-online.com/redexpert/spec/74479645?ad; Category: Filter Chokes; Match Code: WE-MI; Mount: Surface Mount; Operating Temperature Max: 125°C; Operating Temperature Min: -55°C; Packaging: Tape and Reel; Length: 1.6mm; Width: 0.8mm; Height: 0.8mm; DC Resistance Max: 1.55Ω; Inductance: 0.56µH; Rated Current: 35mA
footprint WE-MI_0603_L1.6W0.8H0.8
pins: 1, 2

## 74479645J
designator L?, comment 0.56µH  (value not drawn)
WE-MI SMT Multilayer Inductor, size 0603, 0.56µH, 35mA, 1.55Ω; Manufacturer Part Number: 74479645J; Manufacturer: Wurth Elektronik; Case/Size Code: 0603; Q Factor: 15; ComponentLink1Description: Manufacturer Link; ComponentLink1URL: https://www.we-online.com/redexpert/article/74479645J?ad; ComponentLink2Description: Datasheet; ComponentLink2URL: https://www.we-online.com/redexpert/spec/74479645J?ad; Category: Filter Chokes; Match Code: WE-MI; Mount: Surface Mount; Operating Temperature Max: 125°C; Operating Temperature Min: -55°C; Packaging: Tape and Reel; Length: 1.6mm; Width: 0.8mm; Height: 0.8mm; DC Resistance Max: 1.55Ω; Inductance: 0.56µH; Rated Current: 35mA
footprint WE-MI_0603_L1.6W0.8H0.8
pins: 1, 2

## 74479651
designator L?, comment 1.8µH  (value not drawn)
WE-MI SMT Multilayer Inductor, size 0603, 1.8µH, 25mA, 0.8Ω; Manufacturer Part Number: 74479651; Manufacturer: Wurth Elektronik; Case/Size Code: 0603; Q Factor: 35; ComponentLink1Description: Manufacturer Link; ComponentLink1URL: https://www.we-online.com/redexpert/article/74479651?ad; ComponentLink2Description: Datasheet; ComponentLink2URL: https://www.we-online.com/redexpert/spec/74479651?ad; Category: Filter Chokes; Match Code: WE-MI; Mount: Surface Mount; Operating Temperature Max: 125°C; Operating Temperature Min: -55°C; Packaging: Tape and Reel; Length: 1.6mm; Width: 0.8mm; Height: 0.8mm; DC Resistance Max: 0.8Ω; Inductance: 1.8µH; Rated Current: 25mA
footprint WE-MI_0603_L1.6W0.8H0.8
pins: 1, 2

## 74479652
designator L?, comment 2.2µH  (value not drawn)
WE-MI SMT Multilayer Inductor, size 0603, 2.2µH, 15mA, 1Ω; Manufacturer Part Number: 74479652; Manufacturer: Wurth Elektronik; Case/Size Code: 0603; Q Factor: 35; ComponentLink1Description: Manufacturer Link; ComponentLink1URL: https://www.we-online.com/redexpert/article/74479652?ad; ComponentLink2Description: Datasheet; ComponentLink2URL: https://www.we-online.com/redexpert/spec/74479652?ad; Category: Filter Chokes; Match Code: WE-MI; Mount: Surface Mount; Operating Temperature Max: 125°C; Operating Temperature Min: -55°C; Packaging: Tape and Reel; Length: 1.6mm; Width: 0.8mm; Height: 0.8mm; DC Resistance Max: 1Ω; Inductance: 2.2µH; Rated Current: 15mA
footprint WE-MI_0603_L1.6W0.8H0.8
pins: 1, 2

## 74479653
designator L?, comment 3.3µH  (value not drawn)
WE-MI SMT Multilayer Inductor, size 0603, 3.3µH, 15mA, 1.4Ω; Manufacturer Part Number: 74479653; Manufacturer: Wurth Elektronik; Case/Size Code: 0603; Q Factor: 35; ComponentLink1Description: Manufacturer Link; ComponentLink1URL: https://www.we-online.com/redexpert/article/74479653?ad; ComponentLink2Description: Datasheet; ComponentLink2URL: https://www.we-online.com/redexpert/spec/74479653?ad; Category: Filter Chokes; Match Code: WE-MI; Mount: Surface Mount; Operating Temperature Max: 125°C; Operating Temperature Min: -55°C; Packaging: Tape and Reel; Length: 1.6mm; Width: 0.8mm; Height: 0.8mm; DC Resistance Max: 1.4Ω; Inductance: 3.3µH; Rated Current: 15mA
footprint WE-MI_0603_L1.6W0.8H0.8
pins: 1, 2

## 74479668
designator L?, comment 6.8µH  (value not drawn)
WE-MI SMT Multilayer Inductor, size 0603, 6.8µH, 5mA, 1.7Ω; Manufacturer Part Number: 74479668; Manufacturer: Wurth Elektronik; Case/Size Code: 0603; Q Factor: 35; ComponentLink1Description: Manufacturer Link; ComponentLink1URL: https://www.we-online.com/redexpert/article/74479668?ad; ComponentLink2Description: Datasheet; ComponentLink2URL: https://www.we-online.com/redexpert/spec/74479668?ad; Category: Filter Chokes; Match Code: WE-MI; Mount: Surface Mount; Operating Temperature Max: 125°C; Operating Temperature Min: -55°C; Packaging: Tape and Reel; Length: 1.6mm; Width: 0.8mm; Height: 0.8mm; DC Resistance Max: 1.7Ω; Inductance: 6.8µH; Rated Current: 5mA
footprint WE-MI_0603_L1.6W0.8H0.8
pins: 1, 2

## 74479681
designator L?, comment 12µH  (value not drawn)
WE-MI SMT Multilayer Inductor, size 0603, 12µH, 3mA, 2.1Ω; Manufacturer Part Number: 74479681; Manufacturer: Wurth Elektronik; Case/Size Code: 0603; Q Factor: 30; ComponentLink1Description: Manufacturer Link; ComponentLink1URL: https://www.we-online.com/redexpert/article/74479681?ad; ComponentLink2Description: Datasheet; ComponentLink2URL: https://www.we-online.com/redexpert/spec/74479681?ad; Category: Filter Chokes; Match Code: WE-MI; Mount: Surface Mount; Operating Temperature Max: 125°C; Operating Temperature Min: -55°C; Packaging: Tape and Reel; Length: 1.6mm; Width: 0.8mm; Height: 0.8mm; DC Resistance Max: 2.1Ω; Inductance: 12µH; Rated Current: 3mA
footprint WE-MI_0603_L1.6W0.8H0.8
pins: 1, 2

## 744790282
designator L?, comment 8.2µH  (value not drawn)
WE-MI SMT Multilayer Inductor, size 0805, 8.2µH, 15mA, 1Ω; Manufacturer Part Number: 744790282; Manufacturer: Wurth Elektronik; Case/Size Code: 0805; Q Factor: 50; ComponentLink1Description: Manufacturer Link; ComponentLink1URL: https://www.we-online.com/redexpert/article/744790282?ad; ComponentLink2Description: Datasheet; ComponentLink2URL: https://www.we-online.com/redexpert/spec/744790282?ad; Category: Filter Chokes; Match Code: WE-MI; Mount: Surface Mount; Operating Temperature Max: 125°C; Operating Temperature Min: -55°C; Packaging: Tape and Reel; Length: 2mm; Width: 1.2mm; Height: 0.9mm; DC Resistance Max: 1Ω; Inductance: 8.2µH; Rated Current: 15mA
footprint WE-MI_0805_L2W1.2H0.9
pins: 1, 2

## 744790515
designator L?, comment 1.5µH  (value not drawn)
WE-MI SMT Multilayer Inductor, size 0805, 1.5µH, 50mA, 0.5Ω; Manufacturer Part Number: 744790515; Manufacturer: Wurth Elektronik; Case/Size Code: 0805; Q Factor: 45; ComponentLink1Description: Manufacturer Link; ComponentLink1URL: https://www.we-online.com/redexpert/article/744790515?ad; ComponentLink2Description: Datasheet; ComponentLink2URL: https://www.we-online.com/redexpert/spec/744790515?ad; Category: Filter Chokes; Match Code: WE-MI; Mount: Surface Mount; Operating Temperature Max: 125°C; Operating Temperature Min: -55°C; Packaging: Tape and Reel; Length: 2mm; Width: 1.2mm; Height: 0.9mm; DC Resistance Max: 0.5Ω; Inductance: 1.5µH; Rated Current: 50mA
footprint WE-MI_0805_L2W1.2H0.9
pins: 1, 2